# Altium footprint library Con Mod Jack PCB.PcbLib: 213 footprints (part 11 of 14)
Each footprint in its own frame and in the unit in brackets; x right, y up, seen from the top. Pads: shape width x height; smd on the part's side, far side on the other; paste and mask are expansions set on the pad; w line width, h text height; cw(c..) or ccw(c..) is an arc to the next point about the centre after c.
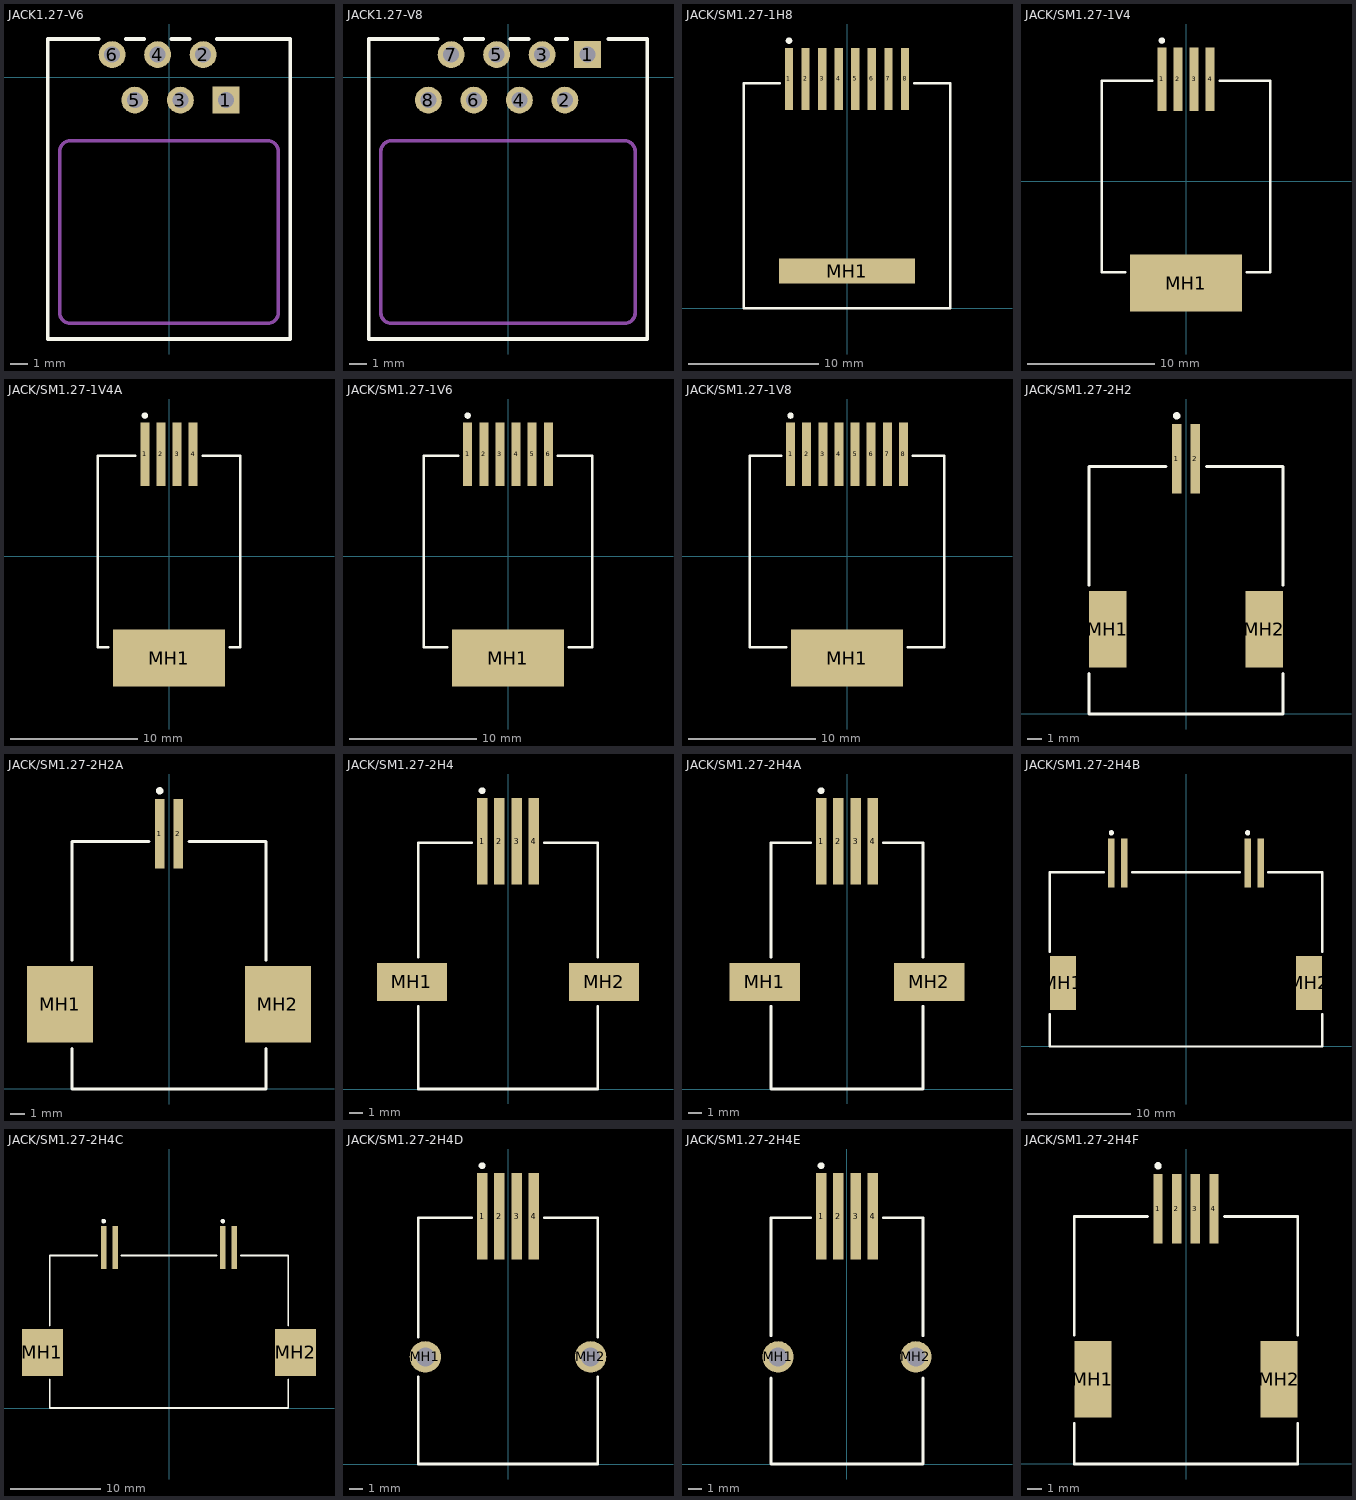
[diagram p10: the footprints below, top view; thin cyan lines are the x and y axes]

## JACK1.27-V6 [mm] "Connector; PCB Jack, Thru-Hole; 1-Port, 6 Positions, 6 Loaded; Unshielded without Lightpipes; Bottom"
height 12.71
pads (6):
  rect 1.5x1.5 hole 0.9: 1(3.175,-1.27)
  round 1.5 hole 0.9: 2(1.905,1.27) 3(0.635,-1.27) 4(-0.635,1.27) 5(-1.905,-1.27) 6(-3.175,1.27)
Top Overlay:
  lines w0.2: -3.927,2.14 -6.775,2.14 -6.775,-14.61 6.775,-14.61 6.775,2.14 2.657,2.14 ; -2.423,2.14 -1.387,2.14 ; 0.117,2.14 1.153,2.14
Mechanical 1:
  lines w0.2: -6.1,-13.14 ccw(c-5.5,-13.14) -5.5,-13.74 5.5,-13.74 ccw(c5.5,-13.14) 6.1,-13.14 6.1,-4.14 ccw(c5.5,-4.14) 5.5,-3.54 -5.5,-3.54 ccw(c-5.5,-4.14) -6.1,-4.14 -6.1,-13.14
  text "Assign" at -5,-6.14 h1.5
  text "Keepout" at -5,-8.14 h1.5
  text "Area to" at -5,-10.14 h1.5
  text "Cut-out" at -5,-12.14 h1.5

## JACK1.27-V8 [mm] "Connector; PCB Jack, Thru-Hole; 1-Port, 8 Positions, 8 Loaded; Unshielded without Lightpipes; Bottom"
height 12.71
pads (8):
  rect 1.5x1.5 hole 0.9: 1(4.445,1.27)
  round 1.5 hole 0.9: 2(3.175,-1.27) 3(1.905,1.27) 4(0.635,-1.27) 5(-0.635,1.27) 6(-1.905,-1.27) 7(-3.175,1.27) 8(-4.445,-1.27)
Top Overlay:
  lines w0.2: -3.927,2.14 -7.775,2.14 -7.775,-14.61 7.775,-14.61 7.775,2.14 5.595,2.14 ; -2.423,2.14 -1.387,2.14 ; 0.117,2.14 1.153,2.14 ; 2.657,2.14 3.295,2.14
Mechanical 1:
  lines w0.2: -7.1,-13.14 ccw(c-6.5,-13.14) -6.5,-13.74 6.5,-13.74 ccw(c6.5,-13.14) 7.1,-13.14 7.1,-4.14 ccw(c6.5,-4.14) 6.5,-3.54 -6.5,-3.54 ccw(c-6.5,-4.14) -7.1,-4.14 -7.1,-13.14
  text "Assign" at -5,-6.14 h1.5
  text "Keepout" at -5,-8.14 h1.5
  text "Area to" at -5,-10.14 h1.5
  text "Cut-out" at -5,-12.14 h1.5

## JACK/SM1.27-1H8 [mil] "Connector; PCB Jack, SM; 1-Port, 8 Positions, 8 Loaded; Shielded without Lightpipes; Right Angle"
height 529.53
pads (9):
  rect 25x187 smd: 1(-175,692.5) 2(-125,692.5) 3(-75,692.5) 4(-25,692.5) 5(25,692.5) 6(75,692.5) 7(125,692.5) 8(175,692.5)
  rect 410x75 smd: MH1(0,112.5)
Top Overlay:
  circle w9.84: c-175,807.65 r4.92
  lines w7.87: -203.25,679 -312,679 -312,0 312,0 312,679 203.25,679

## JACK/SM1.27-1V4 [mm] "Connector; PCB Jack, SM; 1-Port, 6 Positions, 4 Loaded; Unshielded without Lightpipes; Vertical"
height 12.7
pads (5):
  rect 0.7x5 smd: 1(-1.905,8.025) 2(-0.635,8.025) 3(0.635,8.025) 4(1.905,8.025)
  rect 8.8x4.5 smd: MH1(0,-8.025)
Top Overlay:
  circle w0.25: c-1.905,11.075 r0.125
  lines w0.2: -4.8,-7.175 -6.65,-7.175 -6.65,7.925 -2.655,7.925 ; 2.655,7.925 6.65,7.925 6.65,-7.175 4.8,-7.175

## JACK/SM1.27-1V4A [mm] "Connector; PCB Jack, SM; 1-Port, 4 Positions, 4 Loaded; Unshielded without Lightpipes; Vertical"
height 12.7
pads (5):
  rect 0.7x5 smd: 1(-1.905,8.025) 2(-0.635,8.025) 3(0.635,8.025) 4(1.905,8.025)
  rect 8.8x4.5 smd: MH1(0,-8.025)
Top Overlay:
  circle w0.25: c-1.905,11.075 r0.125
  lines w0.2: -4.8,-7.175 -5.6,-7.175 -5.6,7.925 -2.655,7.925 ; 2.655,7.925 5.6,7.925 5.6,-7.175 4.8,-7.175

## JACK/SM1.27-1V6 [mm] "Connector; PCB Jack, SM; 1-Port, 6 Positions, 6 Loaded; Unshielded without Lightpipes; Vertical"
height 12.7
pads (7):
  rect 0.7x5 smd: 1(-3.175,8.025) 2(-1.905,8.025) 3(-0.635,8.025) 4(0.635,8.025) 5(1.905,8.025) 6(3.175,8.025)
  rect 8.8x4.5 smd: MH1(0,-8.025)
Top Overlay:
  circle w0.25: c-3.175,11.075 r0.125
  lines w0.2: -4.8,-7.175 -6.65,-7.175 -6.65,7.925 -3.925,7.925 ; 3.925,7.925 6.65,7.925 6.65,-7.175 4.8,-7.175

## JACK/SM1.27-1V8 [mm] "Connector; PCB Jack, SM; 1-Port, 8 Positions, 8 Loaded; Unshielded without Lightpipes; Vertical"
height 12.7
pads (9):
  rect 0.7x5 smd: 1(-4.445,8.025) 2(-3.175,8.025) 3(-1.905,8.025) 4(-0.635,8.025) 5(0.635,8.025) 6(1.905,8.025) 7(3.175,8.025) 8(4.445,8.025)
  rect 8.8x4.5 smd: MH1(0,-8.025)
Top Overlay:
  circle w0.25: c-4.445,11.075 r0.125
  lines w0.2: -5.162,7.925 -7.65,7.925 -7.65,-7.175 -4.8,-7.175 ; 4.8,-7.175 7.65,-7.175 7.65,7.925 5.162,7.925

## JACK/SM1.27-2H2 [mil] "Connector; PCB Jack, SM; 1-Port, 6 Positions, 2 Loaded; Unshielded without Lightpipes; Right Angle"
height 459.06
pads (4):
  rect 25x187 smd: 1(-25,685.5) 2(25,685.5)
  rect 100x205 smd: MH1(-210,227.5) MH2(210,227.5)
Top Overlay:
  circle w9.84: c-25,800.65 r4.92
  lines w7.87: -260,109.25 -260,0 260,0 260,109.25 ; -260,345.75 -260,665 -53.25,665 ; 55,665 260,665 260,345.75

## JACK/SM1.27-2H2A [mil] "Connector; PCB Jack, SM; 1-Port, 6 Positions, 2 Loaded; Unshielded without Lightpipes; Right Angle"
height 459.06
pads (4):
  rect 25x187 smd: 1(-25,685.5) 2(25,685.5)
  rect 178x205 smd: MH1(-292.5,227.5) MH2(292.5,227.5)
Top Overlay:
  circle w9.84: c-25,800.65 r4.92
  lines w7.87: -260,109.25 -260,0 260,0 260,109.25 ; -260,345.75 -260,665 -53.25,665 ; 53.25,665 260,665 260,345.75

## JACK/SM1.27-2H4 [mm] "Connector; PCB Jack, SM; 1-Port, 6 Positions, 4 Loaded; Unshielded without Lightpipes; Right Angle"
height 11.75
pads (6):
  rect 0.76x6.35 smd: 1(-1.905,18.205) 2(-0.635,18.205) 3(0.635,18.205) 4(1.905,18.205)
  rect 5.15x2.8 smd: MH1(-7.06,7.88) MH2(7.06,7.88)
Top Overlay:
  circle w0.25: c-1.905,21.93 r0.125
  lines w0.2: -6.605,6.08 -6.605,0 6.605,0 6.605,6.08 ; -6.605,9.68 -6.605,18.1 -2.685,18.1 ; 2.685,18.1 6.605,18.1 6.605,9.68

## JACK/SM1.27-2H4A [mm] "Connector; PCB Jack, SM; 1-Port, 4 Positions, 4 Loaded; Unshielded without Lightpipes; Right Angle"
height 11.75
pads (6):
  rect 0.76x6.35 smd: 1(-1.905,18.205) 2(-0.635,18.205) 3(0.635,18.205) 4(1.905,18.205)
  rect 5.15x2.8 smd: MH1(-6.045,7.88) MH2(6.045,7.88)
Top Overlay:
  circle w0.25: c-1.905,21.93 r0.125
  lines w0.2: -5.59,6.08 -5.59,0 5.59,0 5.59,6.08 ; -5.59,9.68 -5.59,18.1 -2.685,18.1 ; 2.685,18.1 5.59,18.1 5.59,9.68

## JACK/SM1.27-2H4B [mil] "Connector; PCB Jack, SM; 2-Port, 6 Positions, 2 Loaded; Unshielded without Lightpipes; Right Angle"
height 464.57
pads (6):
  rect 25x187 smd: A1(-285,700.5) A2(-235,700.5) B1(235,700.5) B2(285,700.5)
  rect 100x205 smd: MH1(-470,242.5) MH2(470,242.5)
Top Overlay:
  circle w9.84: c-285,815.65 r4.92
  circle w9.84: c235,815.65 r4.92
  lines w7.87: -520,124.25 -520,0 520,0 520,124.25 ; -520,360.75 -520,665 -313.25,665 ; -206.75,665 206.75,665 ; 313.25,665 520,665 520,360.75

## JACK/SM1.27-2H4C [mil] "Connector; PCB Jack, SM; 2-Port, 6 Positions, 2 Loaded; Unshielded without Lightpipes; Right Angle"
height 464.57
pads (6):
  rect 25x187 smd: A1(-285,700.5) A2(-235,700.5) B1(235,700.5) B2(285,700.5)
  rect 178x205 smd: MH1(-552,242.5) MH2(552,242.5)
Top Overlay:
  circle w9.84: c235,815.65 r4.92
  circle w9.84: c-285,815.65 r4.92
  lines w7.87: -520,124.25 -520,0 520,0 520,124.25 ; -520,360.75 -520,665 -313.25,665 ; -206.75,665 206.75,665 ; 313.25,665 520,665 520,360.75

## JACK/SM1.27-2H4D [mm] "Connector; PCB Jack, SM; 1-Port, 6 Positions, 4 Loaded; Unshielded without Lightpipes; Right Angle"
height 11.75
pads (6):
  rect 0.76x6.35 smd: 1(-1.905,18.205) 2(-0.635,18.205) 3(0.635,18.205) 4(1.905,18.205)
  round 2.3 hole 1.4: MH1(-6.08,7.88) MH2(6.08,7.88)
Top Overlay:
  circle w0.25: c-1.905,21.93 r0.125
  lines w0.2: -6.605,6.422 -6.605,0 6.605,0 6.605,6.422 ; -6.605,9.338 -6.605,18.1 -2.685,18.1 ; 2.685,18.1 6.605,18.1 6.605,9.338

## JACK/SM1.27-2H4E [mm] "Connector; PCB Jack, SM; 1-Port, 4 Positions, 4 Loaded; Unshielded without Lightpipes; Right Angle"
height 11.75
pads (6):
  rect 0.76x6.35 smd: 1(-1.905,18.205) 2(-0.635,18.205) 3(0.635,18.205) 4(1.905,18.205)
  round 2.3 hole 1.4: MH1(-5.065,7.88) MH2(5.065,7.88)
Top Overlay:
  circle w0.25: c-1.905,21.93 r0.125
  lines w0.2: -5.59,6.33 -5.59,0 5.59,0 5.59,6.33 ; -5.59,9.43 -5.59,18.1 -2.685,18.1 ; 2.685,18.1 5.59,18.1 5.59,9.43

## JACK/SM1.27-2H4F [mil] "Connector; PCB Jack, SM; 1-Port, 8 Positions, 4 Loaded; Unshielded without Lightpipes; Right Angle"
height 459.06
pads (6):
  rect 25x187 smd: 1(-75,685.5) 2(-25,685.5) 3(25,685.5) 4(75,685.5)
  rect 100x205 smd: MH1(-250,227.5) MH2(250,227.5)
Top Overlay:
  circle w9.84: c-75,800.65 r4.92
  lines w7.87: -300,109.25 -300,0 300,0 300,109.25 ; -300,345.75 -300,665 -103.25,665 ; 103.25,665 300,665 300,345.75